# Altium footprint library REB215_XPRO_Extension_Board.PcbLib: 56 footprints (part 4 of 4)
Each footprint in its own frame and in the unit in brackets; x right, y up, seen from the top. Pads: shape width x height; smd on the part's side, far side on the other; paste and mask are expansions set on the pad; w line width, h text height; cw(c..) or ccw(c..) is an arc to the next point about the centre after c.
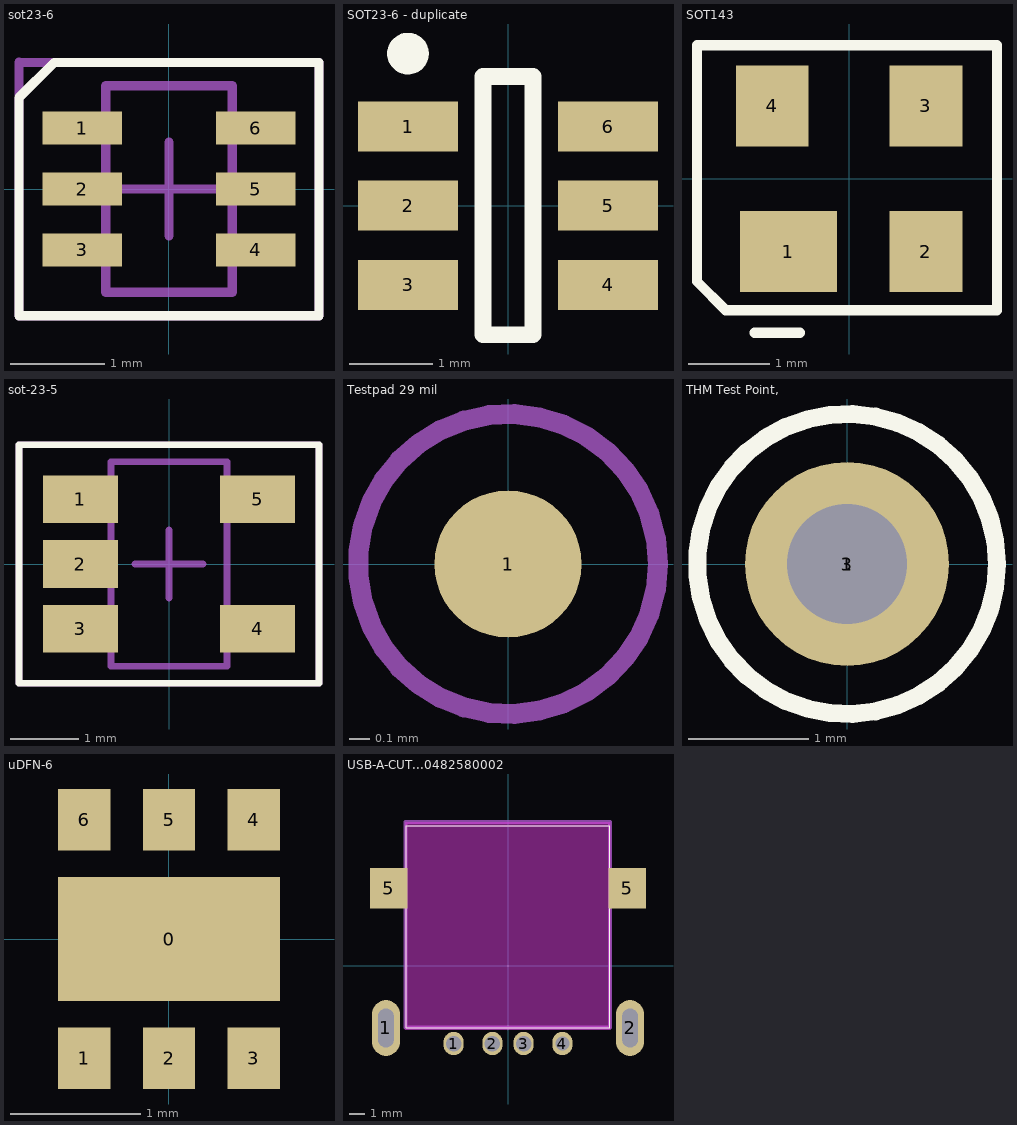
[diagram p3: the footprints below, top view; thin cyan lines are the x and y axes]

## sot23-6 [mm]
height 1.1
pads (6):
  rect 0.85x0.35 smd: 1(-0.925,0.65) 2(-0.925,0) 3(-0.925,-0.65) 4(0.925,-0.65) 5(0.925,0) 6(0.925,0.65)
Top Overlay:
  lines w0.1: -1.6,-1.35 1.6,-1.35 1.6,1.35 -1.225,1.35 -1.6,0.975 -1.6,-1.35
Mechanical 13:
  lines w0.1: -0.675,-1.1 -0.675,1.1 0.675,1.1 0.675,-1.1 -0.675,-1.1
Mechanical 15:
  lines w0.1: -0.5,0 0.5,0 ; 0,-0.5 0,0.5 ; -1.6,-1.35 -1.6,1.35 1.6,1.35 1.6,-1.35 -1.6,-1.35
3D body "SOT363.step": height 0.95, standoff -0.04, extent -1.05,-1 1.05,1

## SOT23-6 - duplicate [mm] "SOT23, 6-Leads, Body 2.9x1.6mm, Pitch 0.95mm, Lead Span 2.7mm, IPC High Density"
height 1.45
pads (6):
  rect 1.2x0.6 smd: 1(-1.2,0.95) 2(-1.2,0) 3(-1.2,-0.95) 4(1.2,-0.95) 5(1.2,0) 6(1.2,0.95)
Top Overlay:
  circle w0.25: c-1.2,1.825 r0.125
  lines w0.2: -0.3,-1.55 -0.3,1.55 0.3,1.55 0.3,-1.55 -0.3,-1.55
3D body "sot-23-6.stp": height 1.25, standoff 0.14, extent -1.422,-1.46 1.422,1.461

## SOT143 [mm]
pads (4):
  rect 1.2x1 smd: 1(-0.75,-0.9)
  rect 0.9x1 smd: 2(0.95,-0.9) 3(0.95,0.9) 4(-0.95,0.9)
Top Overlay:
  lines w0.127: -1.168,-1.905 -0.61,-1.905 ; -1.88,-1.27 -1.524,-1.626 1.829,-1.626 1.829,1.651 -1.448,1.651 -1.88,1.651 -1.88,1.245 -1.88,-1.27

## sot-23-5 [mm]
height 1.4
pads (5):
  rect 1.1x0.7 smd mask+0.07: 1(-1.3,0.95) 2(-1.3,0) 3(-1.3,-0.95) 4(1.3,-0.95) 5(1.3,0.95)
Top Overlay:
  lines w0.1: -2.2,-1.75 2.2,-1.75 2.2,1.75 -2.2,1.75 -2.2,-1.75
Mechanical 13:
  lines w0.1: -0.85,-1.5 -0.85,1.5 0.85,1.5 0.85,-1.5 -0.85,-1.5
Mechanical 15:
  lines w0.1: -0.5,0 0.5,0 ; 0,-0.5 0,0.5 ; -2.2,-1.75 -2.2,1.75 2.2,1.75 2.2,-1.75 -2.2,-1.75
3D body "SOT23-3pin.step": height 1.3, standoff 0, extent -1.5,-1.5 1.5,1.5

## Testpad 29 mil [mil] "Testpad 29 mil"
pads (1):
  round 29 smd paste-25: 1(0,0)
Mechanical 15:
  circle w3.94: c0,0 r29.53

## THM Test Point, [mm] "THM Test Point, 1.0mm Dia. Mounting Hole"
height 2.5
pads (2):
  round 1.7 hole 1: 1(0,0)
  rect 1.75x1.75 on Top Paste: 3(0,0)
Top Overlay:
  circle w0.15: c0,0 r1.25
Mechanical 13:
  circle w0.1: c0,0 r1.25
Mechanical 15:
  circle w0.1: c0,0 r1.25
3D body: height 2.5, standoff 0, extent -1.245,-1.248 1.245,1.248

## uDFN-6 [mm] "uDFN-6"
pads (7):
  rect 1.7x0.95 smd mask+0.051: 0(0,-0.001)
  rect 0.4x0.47 smd mask+0.051: 1(-0.65,-0.915) 2(0,-0.915) 3(0.65,-0.915) 4(0.65,0.915) 5(0,0.915) 6(-0.65,0.915)
3D body "User Library-DFN 6 2x2.step": height 0.75, standoff 0, extent -1,-1.016 1,0.988

## USB-A-CUT...0482580002 [mm] "USB - A USB 2.0 Receptacle Connector 4 Position Board Cutout, Through Hole, Right Angle"
pads (8):
  oval 1.8x3.6 hole 1 slot 2.5 at 90 deg: 1(-7.85,-4) 2(7.85,-4)
  oval 1.3x1.5 hole 1: 1(-3.5,-5) 2(-1,-5) 3(1,-5)
  oval 1.3x1.5 hole 0.92: 4(3.5,-5)
  rect 2.4x2.6 smd: 5(-7.675,5) 5(7.675,5)
Top Overlay:
  lines w0.025: -6.55,-4 6.55,-4 6.55,9 -6.55,9 -6.55,-4
Keep-Out Layer:
  board cut-out: -6.6,9.25 -6.6,-4.129 -3.302,-4.129 -0.012,-4.13 3.292,-4.129 4.934,-4.129 6.573,-4.129 6.575,9.25
Mechanical 6:
  lines w0.025: -6.55,-4 -6.55,9 6.55,9 6.55,-4 -6.55,-4
Mechanical 7:
  lines w0.254: -6.6,9.25 -6.6,-3.95 -6.593,-3.957 6.405,-3.957 6.575,-3.957 6.575,9.25 -6.6,9.25 ; -6.6,9.25 -6.6,9.25
Mechanical 9:
  text "3" at 0.238,-5 h0.64
  text "2" at -1.762,-5 h0.64
  text "1" at -4.262,-5 h0.64
  text "7" at -8.437,3.09 h0.64
  text "8" at 6.913,3.09 h0.64
  text "4" at 2.738,-5 h0.64
  text "6" at 7.088,-3.7 h0.64
  text "5" at -8.612,-3.7 h0.64
3D body "482580002.stp": height 5.77, standoff -1.13, extent -8.543,-5.968 8.557,8.032